# Altium footprint library DE-260924.PcbLib: 126 footprints (part 4 of 8)
Each footprint in its own frame and in the unit in brackets; x right, y up, seen from the top. Pads: shape width x height; smd on the part's side, far side on the other; paste and mask are expansions set on the pad; w line width, h text height; cw(c..) or ccw(c..) is an arc to the next point about the centre after c.
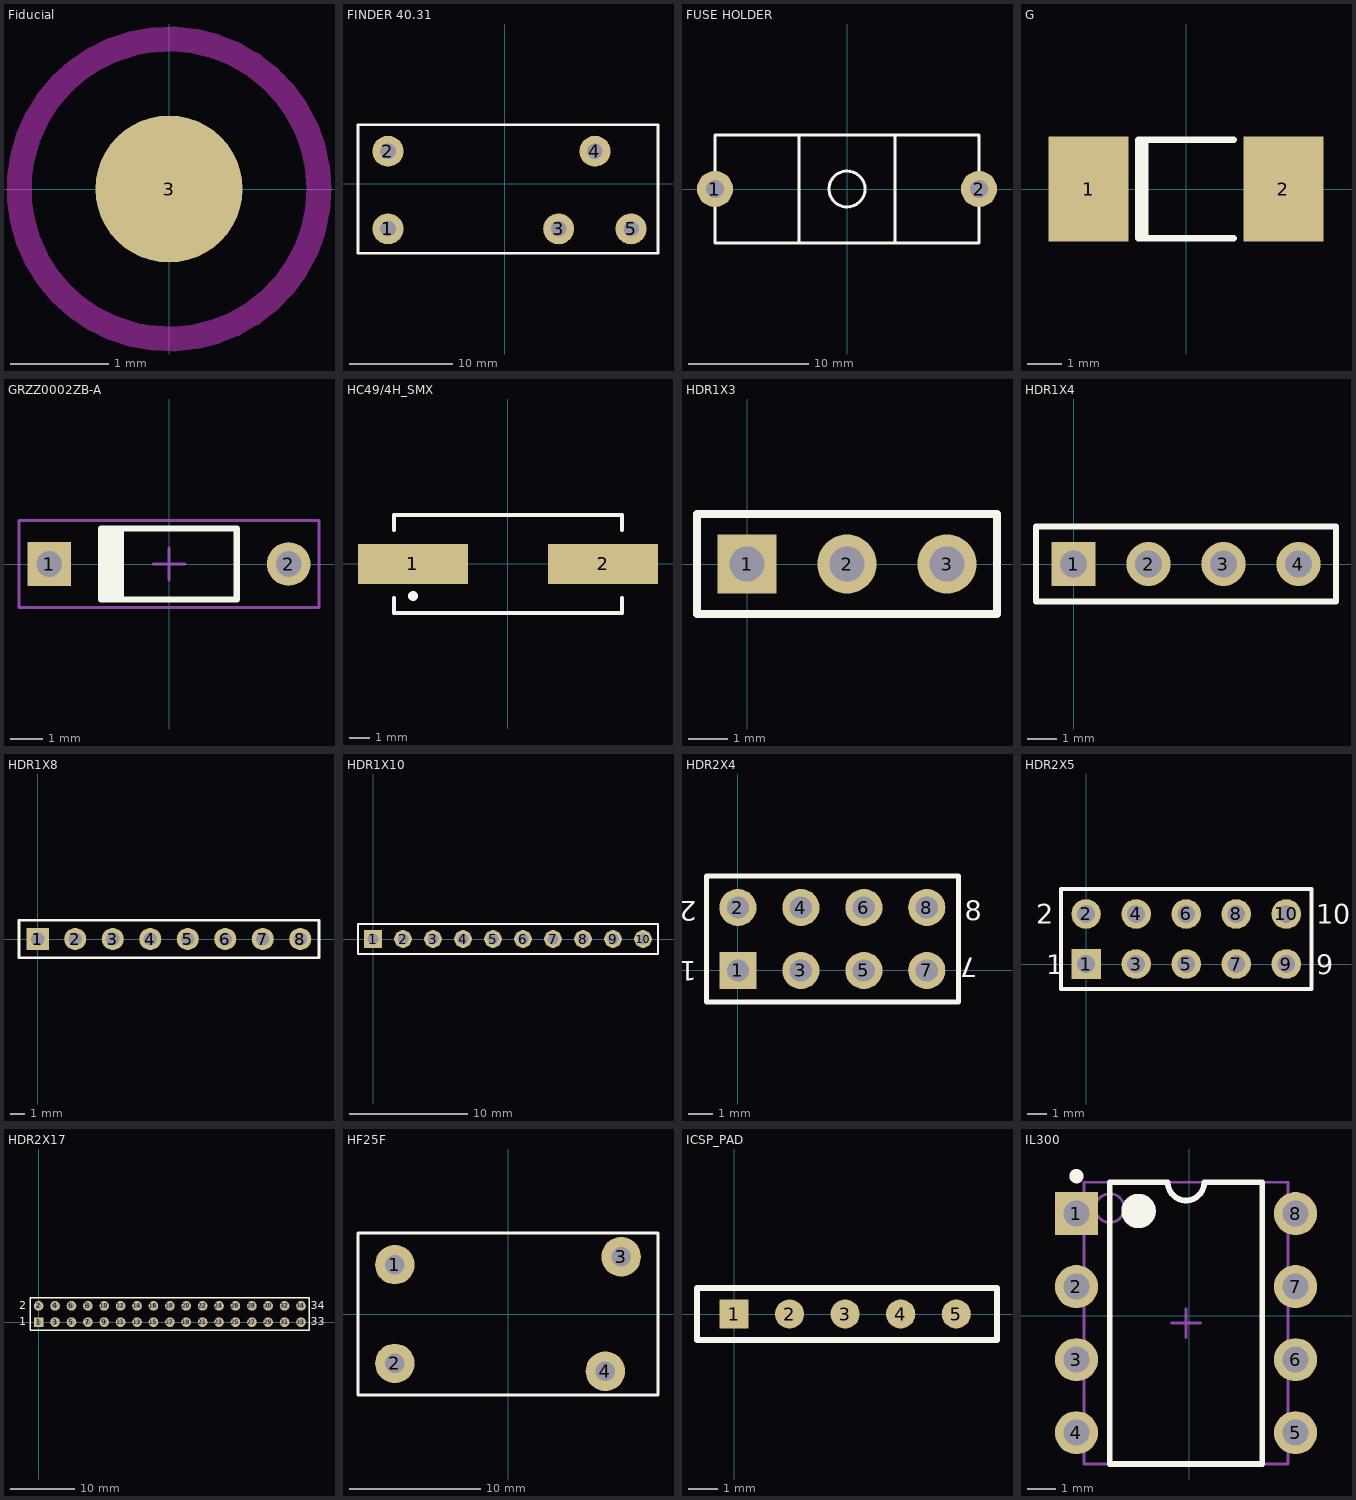
[diagram p3: the footprints below, top view; thin cyan lines are the x and y axes]

## Fiducial [mm] "Pick and place machine mark"
height 10
pads (1):
  round 1.5 smd paste+0 mask+0.8: 3(0,0)
Keep-Out Layer:
  circle w0.254: c0,0 r1.529

## FINDER 40.31 [mm] "Finder raly tip 40.31"
height 20
pads (5):
  round 3 hole 1.5: 1(-11.3,-4.35) 2(-11.3,3.15) 3(5.2,-4.35) 4(8.7,3.15) 5(12.2,-4.35)
Top Overlay:
  lines w0.254: 14.788,5.7 -14.2,5.7 -14.2,-6.7 14.8,-6.7 14.8,5.7

## FUSE HOLDER [mm] "Fuse holder"
height 13
pads (2):
  round 3 hole 1.5: 1(-11,0) 2(11,0)
Top Overlay:
  circle w0.254: c0,0 r1.5
  lines w0.254: -4,-4.5 -4,4.5 ; 4,-4.5 4,4.5 ; -11,-4.5 -11,4.5 11,4.5 11,-4.5 -11,-4.5
3D body: height 13, standoff 0, extent -11,-4 11,4

## G [mm] "Chip Capacitor; Body 6.73 x 2.79 mm (LxW typ)"
height 3.18
pads (2):
  rect 2.35x3.1 smd: 1(-2.875,0) 2(2.875,0)
Top Overlay:
  lines w0.2: -1.21,-1.45 -1.21,1.45 ; 1.4,-1.45 -1.4,-1.45 -1.4,1.45 1.4,1.45

## GRZZ0002ZB-A [mm] "Diode, Axial; Body 4.2 x 2.2 mm (LxDia. max), Lead Dia. 0.5 mm (nom)"
height 2.2
pads (2):
  rect 1.35x1.35 hole 0.8: 1(-3.71,0)
  round 1.35 hole 0.8: 2(3.71,0)
Top Overlay:
  region: -1.4,1.1 -2.2,1.1 -2.2,-1.1 -1.4,-1.1
  lines w0.2: -2.1,-1.1 2.1,-1.1 2.1,1.1 -2.1,1.1
Mechanical 13:
  region: -1.401,1.05 -2.151,1.05 -2.151,-1.05 -1.401,-1.05
  lines w0.1: -2.1,-1.1 -2.1,1.1 2.1,1.1 2.1,-1.1 -2.1,-1.1
Mechanical 15:
  lines w0.1: -0.5,0 0.5,0 ; 0,-0.5 0,0.5 ; -4.65,-1.35 -4.65,1.35 4.65,1.35 4.65,-1.35 -4.65,-1.35
3D body: height 2.2, standoff 0, extent -2.099,-1.099 2.101,1.096

## HC49/4H_SMX [mm] "Surface Mount Quartz Crystal; Body 13.4 (inc. leads) x 4.9 mm (LxW max)"
height 4.3
pads (2):
  rect 5.5x2 smd: 1(-4.75,0) 2(4.75,0)
Top Overlay:
  circle w0.25: c-4.75,-1.6 r0.125
  lines w0.2: -5.7,-1.7 -5.7,-2.45 5.7,-2.45 5.7,-1.7 ; -5.7,1.7 -5.7,2.45 5.7,2.45 5.7,1.7

## HDR1X3 [mm] "Connector; Header; 3 Position"
height 0.8
pads (3):
  rect 1.5x1.5 hole 0.9: 1(0,0)
  round 1.5 hole 0.9: 2(2.54,0) 3(5.08,0)
Top Overlay:
  lines w0.2: -1.27,-1.27 -1.27,1.27 6.35,1.27 6.35,-1.27 -1.27,-1.27

## HDR1X4 [mm] "Connector; Header; 4 Position"
pads (4):
  rect 1.5x1.5 hole 0.9: 1(0,0)
  round 1.5 hole 0.9: 2(2.54,0) 3(5.08,0) 4(7.62,0)
Top Overlay:
  lines w0.2: -1.27,-1.27 8.89,-1.27 8.89,1.27 -1.27,1.27 -1.27,-1.27

## HDR1X8 [mm] "Connector; Header; 8 Position"
pads (8):
  rect 1.5x1.5 hole 0.9: 1(0,0)
  round 1.5 hole 0.9: 2(2.54,0) 3(5.08,0) 4(7.62,0) 5(10.16,0) 6(12.7,0) 7(15.24,0) 8(17.78,0)
Top Overlay:
  lines w0.2: -1.27,-1.27 -1.27,1.27 19.05,1.27 19.05,-1.27 -1.27,-1.27

## HDR1X10 [mm] "Connector; Header; 10 Position"
pads (10):
  rect 1.5x1.5 hole 0.9: 1(0,0)
  round 1.5 hole 0.9: 2(2.54,0) 3(5.08,0) 4(7.62,0) 5(10.16,0) 6(12.7,0) 7(15.24,0) 8(17.78,0) 9(20.32,0) 10(22.86,0)
Top Overlay:
  lines w0.2: -1.27,-1.27 24.13,-1.27 24.13,1.27 0.635,1.27 -1.27,1.27 -1.27,-1.27

## HDR2X4 [mm] "Connector; Header; 4x2 Position"
height 0.8
pads (8):
  rect 1.5x1.5 hole 0.9: 1(0,0)
  round 1.5 hole 0.9: 2(0,2.54) 3(2.54,0) 4(2.54,2.54) 5(5.08,0) 6(5.08,2.54) 7(7.62,0) 8(7.62,2.54)
Top Overlay:
  lines w0.2: -1.27,-1.27 -1.27,3.81 8.89,3.81 8.89,-1.27 -1.27,-1.27
  text "8" at 9.144,2.032 h0.8
  text "7" at 9.652,0.508 h0.8
  text "1" at -1.651,0.381 h0.8
  text "2" at -1.651,2.794 h0.8

## HDR2X5 [mm] "Connector; Header; 5x2 Position"
pads (10):
  rect 1.5x1.5 hole 0.9: 1(0,0)
  round 1.5 hole 0.9: 2(0,2.54) 3(2.54,0) 4(2.54,2.54) 5(5.08,0) 6(5.08,2.54) 7(7.62,0) 8(7.62,2.54) 9(10.16,0) 10(10.16,2.54)
Top Overlay:
  lines w0.2: -1.27,-1.27 -1.27,3.81 11.43,3.81 11.43,-1.27 -1.27,-1.27
  text "2" at -2.54,2.032 h1
  text "1" at -2.032,-0.508 h1
  text "9" at 11.684,-0.508 h1
  text "10" at 11.684,2.032 h1

## HDR2X17 [mm] "Connector; Header; 17x2 Position"
pads (34):
  rect 1.5x1.5 hole 0.9: 1(0,0)
  round 1.5 hole 0.9: 2(0,2.54) 3(2.54,0) 4(2.54,2.54) 5(5.08,0) 6(5.08,2.54) 7(7.62,0) 8(7.62,2.54) 9(10.16,0) 10(10.16,2.54) 11(12.7,0) 12(12.7,2.54) 13(15.24,0) 14(15.24,2.54) 15(17.78,0) 16(17.78,2.54) 17(20.32,0) 18(20.32,2.54) 19(22.86,0) 20(22.86,2.54) 21(25.4,0) 22(25.4,2.54) 23(27.94,0) 24(27.94,2.54) 25(30.48,0) 26(30.48,2.54) 27(33.02,0) 28(33.02,2.54) 29(35.56,0) 30(35.56,2.54) 31(38.1,0) 32(38.1,2.54) 33(40.64,0) 34(40.64,2.54)
Top Overlay:
  lines w0.2: -1.27,-1.27 -1.27,3.81 41.91,3.81 41.91,-1.27 -1.27,-1.27
  text "2" at -3.048,2.032 h1.27
  text "1" at -3.048,-0.508 h1.27
  text "33" at 42.164,-0.508 h1.27
  text "34" at 42.164,2.032 h1.27

## HF25F [mm] "PCB relay 20A/250VAC 16A/30VDC"
height 25
pads (4):
  round 3 hole 1.5: 1(-8.6,3.75) 2(-8.6,-3.75) 3(8.6,4.35) 4(7.4,-4.35)
Top Overlay:
  lines w0.254: -11.4,-6.15 11.4,-6.15 11.4,6.15 -11.4,6.15 -11.4,-6.15
3D body: height 25, standoff 0, extent -11.43,-6.096 11.43,6.096

## ICSP_PAD [mm] "PCB pads for ULINK ICSP"
pads (5):
  rect 1x1 smd: 1(0,0)
  round 1 smd: 2(1.905,0) 3(3.81,0) 4(5.715,0) 5(7.62,0)
Top Overlay:
  lines w0.2: -1.27,-0.889 -1.27,0.889 9.017,0.889 9.017,-0.889 -1.27,-0.889

## IL300 [mm] "Optocoupler"
height 5
pads (8):
  rect 1.5x1.5 hole 0.9: 1(-3.922,3.556)
  round 1.5 hole 0.9: 2(-3.922,1.016) 3(-3.922,-1.524) 4(-3.922,-4.064) 5(3.698,-4.064) 6(3.698,-1.524) 7(3.698,1.016) 8(3.698,3.556)
Top Overlay:
  circle w0.6: c-1.762,3.646 r0.3
  circle w0.25: c-3.922,4.856 r0.125
  lines w0.2: -2.762,-5.154 2.538,-5.154 2.538,4.646 0.523,4.646 cw(c-0.112,4.646) -0.747,4.646 -2.762,4.646 -2.762,-5.154
Mechanical 13:
  circle w0.1: c-2.762,3.746 r0.5
  lines w0.1: -3.662,-5.154 3.438,-5.154 3.438,4.646 -3.662,4.646 -3.662,-5.154
Mechanical 15:
  lines w0.1: -0.612,-0.254 0.388,-0.254 ; -0.112,-0.754 -0.112,0.246
3D body: height 5.34, standoff 0, extent -3.662,-5.154 3.438,4.646